# Altium footprint library mypcbLib.PcbLib: 8 footprints
Each footprint in its own frame and in the unit in brackets; x right, y up, seen from the top. Pads: shape width x height; smd on the part's side, far side on the other; paste and mask are expansions set on the pad; w line width, h text height; cw(c..) or ccw(c..) is an arc to the next point about the centre after c.
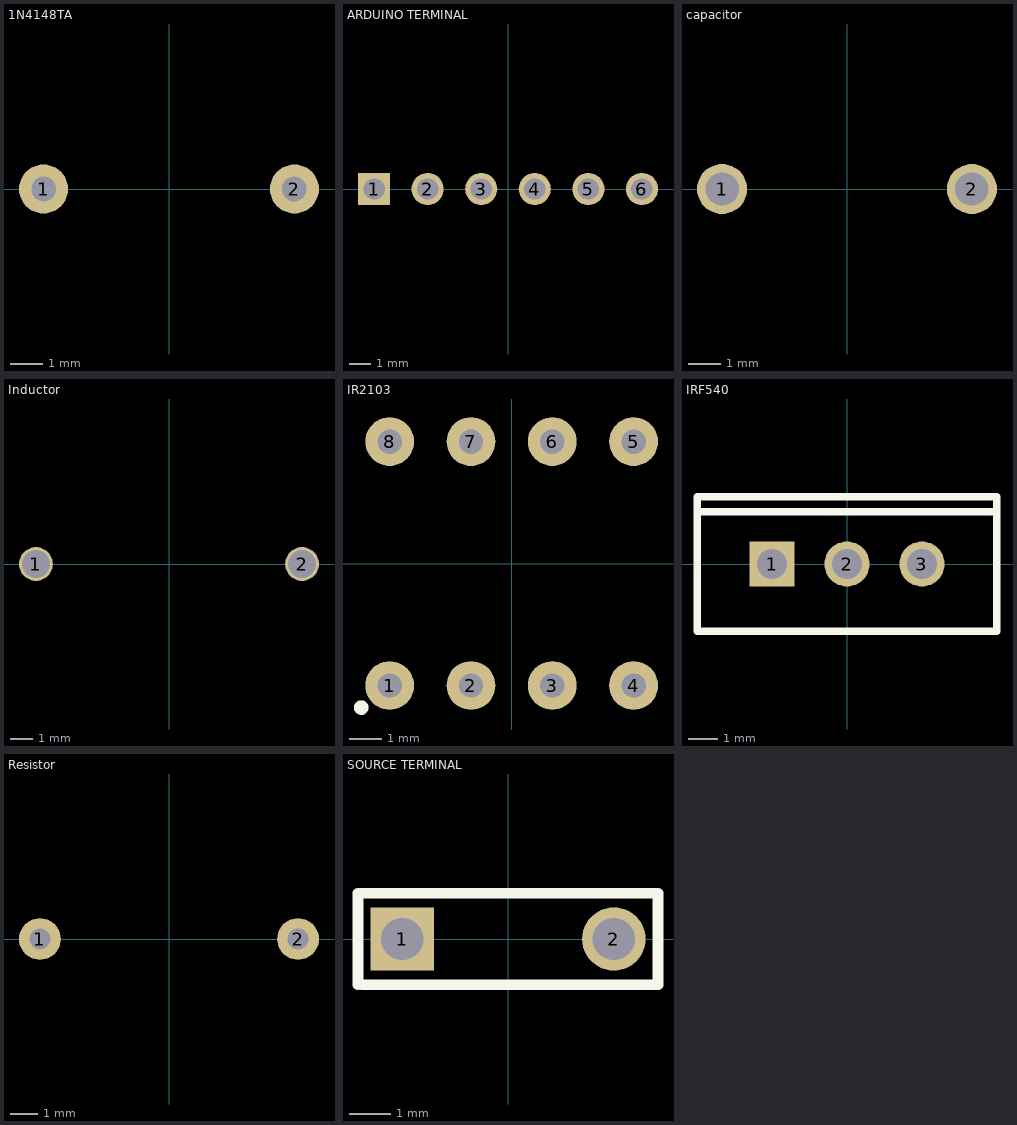
[diagram p0: the footprints below, top view; thin cyan lines are the x and y axes]

## 1N4148TA [mil] "bootstrap for IR2103"
pads (2):
  round 60 hole 30: 1(-153.54,0) 2(153.54,0)

## ARDUINO TERMINAL [mil]
pads (6):
  rect 60x60 hole 40: 1(-250,0)
  round 60 hole 40: 2(-150,0) 3(-50,0) 4(50,0) 5(150,0) 6(250,0)

## capacitor [mil] "100 uF"
pads (2):
  round 60 hole 40: 1(-149.61,0) 2(149.61,0)

## Inductor [mil]
pads (2):
  round 60 hole 50: 1(-236,0) 2(236,0)

## IR2103 [mil] "to control 2 PWM output at the same time"
pads (8):
  round 60 hole 30: 1(-150,-150) 2(-50,-150) 3(50,-150) 4(150,-150) 5(150,150) 6(50,150) 7(-50,150) 8(-150,150)
Top Overlay:
  circle w10: c-185.04,-177.17 r3.94

## IRF540 [mil] "100V Rds 0.077 Qgmax 72nC Qgs 11nC Qgd 32nC"
pads (3):
  rect 60x60 hole 40 square: 1(-100,0)
  round 60 hole 40: 2(0,0) 3(100,0)
Top Overlay:
  lines w10: -200,70 195,70 ; -200,-90 200,-90 200,90 -200,90 -200,-90

## Resistor [mil] "100 ohms, bigger resistor in the kit"
pads (2):
  round 60 hole 30: 1(-185.04,0) 2(185.04,0)

## SOURCE TERMINAL [mil]
pads (2):
  rect 60x60 hole 40 square: 1(-100,0)
  round 60 hole 40: 2(100,0)
Top Overlay:
  lines w10: -141.73,-43.31 -141.73,-39.37 ; -141.73,-23.62 -141.73,-39.37 ; -137.8,-43.31 141.73,-43.31 141.73,-35.43 141.73,43.31 -141.73,43.31 -141.73,-39.37